# Altium footprint library BAT_BC2AAAL.PcbLib: 1 footprints
Each footprint in its own frame and in the unit in brackets; x right, y up, seen from the top. Pads: shape width x height; smd on the part's side, far side on the other; paste and mask are expansions set on the pad; w line width, h text height; cw(c..) or ccw(c..) is an arc to the next point about the centre after c.
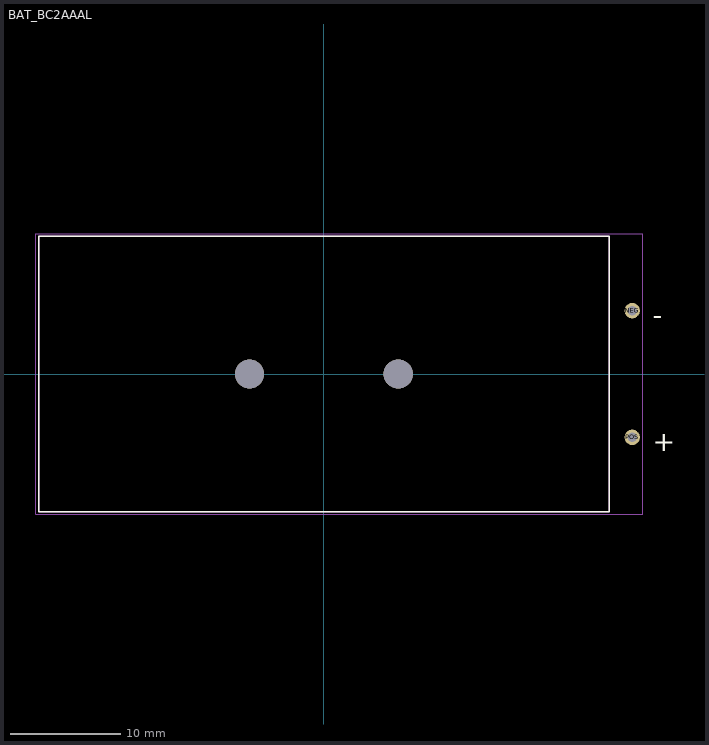
[diagram p0: the footprint, top view; thin cyan lines are the x and y axes]

## BAT_BC2AAAL [mm]
pads (4):
  round 1.398 hole 0.89: NEG(28,5.75) POS(28,-5.75)
  round 2.65 hole 2.65 unplated: ""(-6.75,0) ""(6.75,0)
Top Overlay:
  lines w0.127: -25.905,-12.505 -25.905,12.505 25.905,12.505 25.905,-12.505 -25.905,-12.505
  text "-" at 29.85,4.48 h1.78
  text "+" at 29.85,-7.02 h1.78
Mechanical 13:
  lines w0.127: -25.905,-12.505 -25.905,12.505 25.905,12.505 25.905,-12.505 -25.905,-12.505
  text "+" at 29.85,-7.02 h1.78
  text "-" at 29.85,4.48 h1.78
  text "These pads connections are proposed, you can change" at -24.13,8.89 h0.81
  text "the size and position according to your requirements." at -24.13,7.264 h0.81
Mechanical 15:
  lines w0.05: -26.155,-12.755 -26.155,12.755 28.95,12.755 28.95,-12.755 -26.155,-12.755